# Altium footprint library ATK-2014-09-12.PcbLib: 436 footprints (part 10 of 28)
Each footprint in its own frame and in the unit in brackets; x right, y up, seen from the top. Pads: shape width x height; smd on the part's side, far side on the other; paste and mask are expansions set on the pad; w line width, h text height; cw(c..) or ccw(c..) is an arc to the next point about the centre after c.
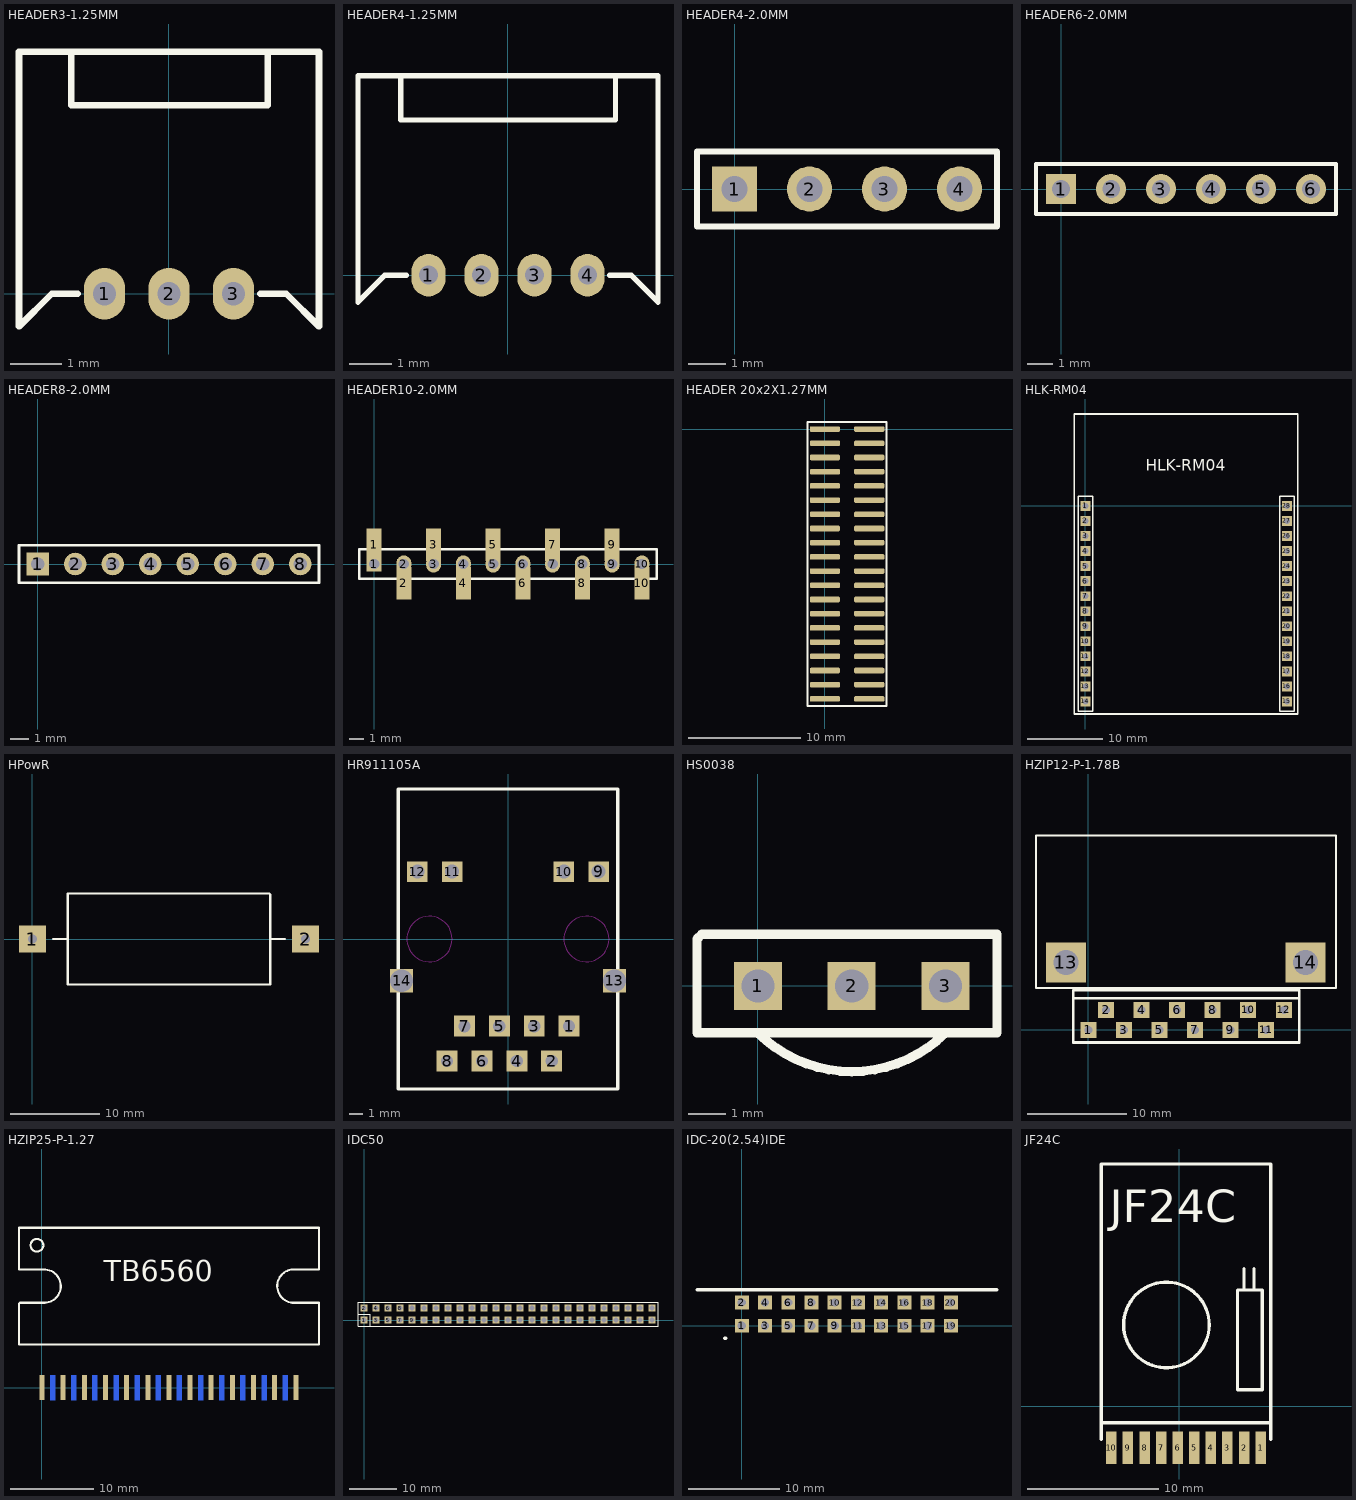
[diagram p9: the footprints below, top view; thin cyan lines are the x and y axes]

## HEADER3-1.25MM [mm]
pads (3):
  oval 0.8x1 hole 0.45: 1(-1.25,0) 2(0,0) 3(1.25,0)
Top Overlay:
  lines w0.127: -1.895,4.699 -1.895,3.658 1.92,3.658 1.92,4.699 ; -1.768,0 -2.276,0 -2.911,-0.635 -2.911,4.699 2.911,4.699 2.911,-0.635 2.276,0 1.768,0

## HEADER4-1.25MM [mm]
pads (4):
  oval 0.8x1 hole 0.45: 1(-1.875,0) 2(-0.625,0) 3(0.625,0) 4(1.875,0)
Top Overlay:
  lines w0.127: -2.53,4.699 -2.53,3.658 2.535,3.658 2.535,4.699 ; -2.393,0 -2.901,0 -3.536,-0.635 -3.536,4.699 3.536,4.699 3.536,-0.635 2.901,0 2.393,0

## HEADER4-2.0MM [mm]
pads (4):
  rect 1.2x1.2 hole 0.7: 1(0,0)
  round 1.2 hole 0.7: 2(2,0) 3(4,0) 4(6,0)
Top Overlay:
  lines w0.152: -1,-1 -1,1 7,1 7,-1 -1,-1

## HEADER6-2.0MM [mm]
pads (6):
  rect 1.2x1.2 hole 0.7: 1(0,0)
  round 1.2 hole 0.7: 2(2,0) 3(4,0) 4(6,0) 5(8,0) 6(10,0)
Top Overlay:
  lines w0.152: -1,-1 11,-1 11,1 -1,1 -1,-1

## HEADER8-2.0MM [mm]
pads (8):
  rect 1.2x1.2 hole 0.7: 1(0,0)
  round 1.2 hole 0.7: 2(2,0) 3(4,0) 4(6,0) 5(8,0) 6(10,0) 7(12,0) 8(14,0)
Top Overlay:
  lines w0.152: -1,-1 15,-1 15,1 -1,1 -1,-1

## HEADER10-2.0MM [mil]
pads (20):
  rect 40x40 hole 27.56: 1(0,0)
  rect 40x85 smd: 1(0,51.06) 2(78.74,-51.06) 3(157.48,51.06) 4(236.22,-51.06) 5(314.96,51.06) 6(393.7,-51.06) 7(472.44,51.06) 8(551.18,-51.06) 9(629.92,51.06) 10(708.66,-51.06)
  oval 40x45 hole 27.56: 2(78.74,0) 3(157.48,0) 4(236.22,0) 5(314.96,0) 6(393.7,0) 7(472.44,0) 8(551.18,0) 9(629.92,0) 10(708.66,0)
Top Overlay:
  lines w6: -39.37,-39.37 -39.37,39.37 748.03,39.37 748.03,-39.37 -39.37,-39.37

## HEADER 20x2X1.27MM [mm]
pads (40):
  rrect50% 2.7x0.5 smd: 1(0,0) 2(3.97,0) 3(0,-1.27) 4(3.97,-1.27) 5(0,-2.54) 6(3.97,-2.54) 7(0,-3.81) 8(3.97,-3.81) 9(0,-5.08) 10(3.97,-5.08) 11(0,-6.35) 12(3.97,-6.35) 13(0,-7.62) 14(3.97,-7.62) 15(0,-8.89) 16(3.97,-8.89) 17(0,-10.16) 18(3.97,-10.16) 19(0,-11.43) 20(3.97,-11.43) 21(0,-12.7) 22(3.97,-12.7) 23(0,-13.97) 24(3.97,-13.97) 25(0,-15.24) 26(3.97,-15.24) 27(0,-16.51) 28(3.97,-16.51) 29(0,-17.78) 30(3.97,-17.78) 31(0,-19.05) 32(3.97,-19.05) 33(0,-20.32) 34(3.97,-20.32) 35(0,-21.59) 36(3.97,-21.59) 37(0,-22.86) 38(3.97,-22.86) 39(0,-24.13) 40(3.97,-24.13)
Top Overlay:
  lines w0.2: 1.667,0.635 5.512,0.635 5.512,-24.765 -1.549,-24.765 -1.549,0.635 2.302,0.635

## HLK-RM04 [mm] "WIFI Module"
pads (28):
  rect 1.3x1.3 hole 0.8: 1(0,0) 2(0,-2) 3(0,-4) 4(0,-6) 5(0,-8) 6(0,-10) 7(0,-12) 8(0,-14) 9(0,-16) 10(0,-18) 11(0,-20) 12(0,-22) 13(0,-24) 14(0,-26) 15(26.781,-26) 16(26.781,-24) 17(26.781,-22) 18(26.781,-20) 19(26.781,-18) 20(26.781,-16) 21(26.781,-14) 22(26.781,-12) 23(26.781,-10) 24(26.781,-8) 25(26.781,-6) 26(26.781,-4) 27(26.781,-2) 28(26.781,0)
Top Overlay:
  lines w0.2: -0.946,-27.3 0.954,-27.3 0.954,1.27 -0.946,1.27 -0.946,-27.3 ; 25.835,-27.3 27.735,-27.3 27.735,1.27 25.835,1.27 25.835,-27.3
  lines w0.203: -1.486,-27.664 28.232,-27.664 28.232,12.214 -1.486,12.214 -1.486,-27.664
  text "HLK-RM04" at 8.001,4.699 h1.52

## HPowR [mm] "HPR"
height 10
pads (2):
  rect 3x3 hole 1: 1(0,0) 2(30.48,0)
Top Overlay:
  lines w0.254: 2.286,0 3.937,0 ; 26.543,-2.921 26.543,2.794 ; 26.543,-2.667 26.543,-5.08 3.937,-5.08 3.937,-2.667 3.937,2.54 3.937,5.08 26.416,5.08 26.543,4.953 26.543,2.413 ; 26.543,0 28.194,0

## HR911105A [mm] "NET_WORK"
height 11
pads (14):
  rect 1.524x1.524 hole 0.889: 1(4.45,-6.35) 2(3.18,-8.89) 3(1.91,-6.35) 4(0.64,-8.89) 5(-0.63,-6.35) 6(-1.9,-8.89) 7(-3.17,-6.35) 8(-4.44,-8.89)
  rect 1.5x1.5 hole 1.02: 9(6.6,4.9) 10(4.064,4.9) 11(-4.064,4.9) 12(-6.6,4.9)
  rect 1.7x1.7 hole 1.65: 13(7.75,-3.048) 14(-7.75,-3.048)
Top Overlay:
  lines w0.254: -8,-10.922 -8,10.922 0,10.922 8,10.922 8,-10.922 0,-10.922 -8,-10.922
Keep-Out Layer:
  circle w0.051: c5.716,0 r1.65
  circle w0.051: c-5.714,0 r1.65

## HS0038 [mm]
height 2.54
pads (3):
  rect 1.3x1.3 hole 0.9: 1(0,0) 2(2.54,0) 3(5.08,0)
Top Overlay:
  lines w0.254: 0,-1.27 ccw(c2.54,1.27) 5.08,-1.27 ; -1.651,-1.27 6.477,-1.27 6.477,1.397 -1.524,1.397 -1.651,1.27 -1.651,-1.27

## HZIP12-P-1.78B [mm]
height 14.8
pads (14):
  rect 1.6x1.6 hole 0.8: 1(0,0) 2(1.778,2) 3(3.556,0) 4(5.334,2) 5(7.112,0) 6(8.89,2) 7(10.668,0) 8(12.446,2) 9(14.224,0) 10(16.002,2) 11(17.78,0) 12(19.558,2)
  rect 4x4 hole 2.5: 13(-2.227,6.731) 14(21.717,6.731)
Top Overlay:
  lines w0.2: -5.227,4.191 24.779,4.191 24.779,19.431 -5.227,19.431 -5.227,4.191
  lines w0.254: -1.524,3.175 21.082,3.175 ; -1.524,-1.27 21.082,-1.27 21.082,3.937 -1.524,3.937 -1.524,-1.27

## HZIP25-P-1.27 [mm] "thick:4.57,height:14,lenth:30,pin:1.27"
height 14
pads (25):
  rect 0.6x3 smd: 1(0,0) 3(2.54,0) 5(5.08,0) 7(7.62,0) 9(10.16,0) 11(12.7,0) 13(15.24,0) 15(17.78,0) 17(20.32,0) 19(22.86,0) 21(25.4,0) 23(27.94,0) 25(30.48,0)
  rect 0.6x3 smd far side: 2(1.27,0) 4(3.81,0) 6(6.35,0) 8(8.89,0) 10(11.43,0) 12(13.97,0) 14(16.51,0) 16(19.05,0) 18(21.59,0) 20(24.13,0) 22(26.67,0) 24(29.21,0)
Top Overlay:
  circle w0.254: c-0.6,17.1 r0.762
  lines w0.254: 0.2,14.195 cw(c0.26,12.195) 0.1,10.2 -2.66,10.2 -2.76,10.1 -2.76,5.2 0.8,5.2 33.26,5.2 33.26,10.2 30,10.2 ; 0.4,14.2 -2.76,14.2 -2.76,19.2 33.26,19.2 33.26,14.2 30,14.2 ; 30.3,10.2 cw(c30.24,12.2) 30.4,14.195
  text "TB6560" at 7.4,12.8 h2.5

## IDC50 [mil]
pads (50):
  rect 62x62 hole 40: 1(0,0) 2(0,100) 3(100,0) 4(100,100) 5(200,0) 6(200,100) 7(300,0) 8(300,100) 9(400,0) 10(400,100) 11(500,0) 12(500,100) 13(600,0) 14(600,100) 15(700,0) 16(700,100) 17(800,0) 18(800,100) 19(900,0) 20(900,100) 21(1000,0) 22(1000,100) 23(1100,0) 24(1100,100) 25(1200,0) 26(1200,100) 27(1300,0) 28(1300,100) 29(1400,0) 30(1400,100) 31(1500,0) 32(1500,100) 33(1600,0) 34(1600,100) 35(1700,0) 36(1700,100) 37(1800,0) 38(1800,100) 39(1900,0) 40(1900,100) 41(2000,0) 42(2000,100) 43(2100,0) 44(2100,100) 45(2200,0) 46(2200,100) 47(2300,0) 48(2300,100) 49(2400,0) 50(2400,100)
Top Overlay:
  lines w6: -50,50 50,50 50,-50 ; -50,-50 2450,-50 2450,150 -50,150 -50,-50

## IDC-20(2.54)IDE [mil]
height 104.33
pads (20):
  rect 60x60 hole 36: 1(0,0) 2(0,100) 3(100,0) 4(100,100) 5(200,0) 6(200,100) 7(300,0) 8(300,100) 9(400,0) 10(400,100) 11(500,0) 12(500,100) 13(600,0) 14(600,100) 15(700,0) 16(700,100) 17(800,0) 18(800,100) 19(900,0) 20(900,100)
Top Overlay:
  lines w15: -193,155 1099,155 ; -72.48,-54 -69,-54

## JF24C [mm]
height 2
pads (10):
  rect 0.8x2.5 smd: 1(6.223,-3.175) 2(4.953,-3.175) 3(3.683,-3.175) 4(2.413,-3.175) 5(1.143,-3.175) 6(-0.127,-3.175) 7(-1.397,-3.175) 8(-2.667,-3.175) 9(-3.937,-3.175) 10(-5.207,-3.175)
Top Overlay:
  circle w0.254: c-0.991,6.223 r3.277
  lines w0.254: -5.969,-2.54 -5.969,18.542 6.985,18.542 6.985,-2.54 ; -5.969,-1.27 6.985,-1.27 ; 4.953,10.541 4.953,8.89 5.08,8.89 ; 5.715,8.89 5.715,10.541 ; 4.445,1.27 4.445,8.89 6.35,8.89 6.35,1.27 4.445,1.27
  text "JF24C" at -5.334,14.097 h2.5